# Altium footprint library 信标封装.PcbLib: 1 footprints
Each footprint in its own frame and in the unit in brackets; x right, y up, seen from the top. Pads: shape width x height; smd on the part's side, far side on the other; paste and mask are expansions set on the pad; w line width, h text height; cw(c..) or ccw(c..) is an arc to the next point about the centre after c.
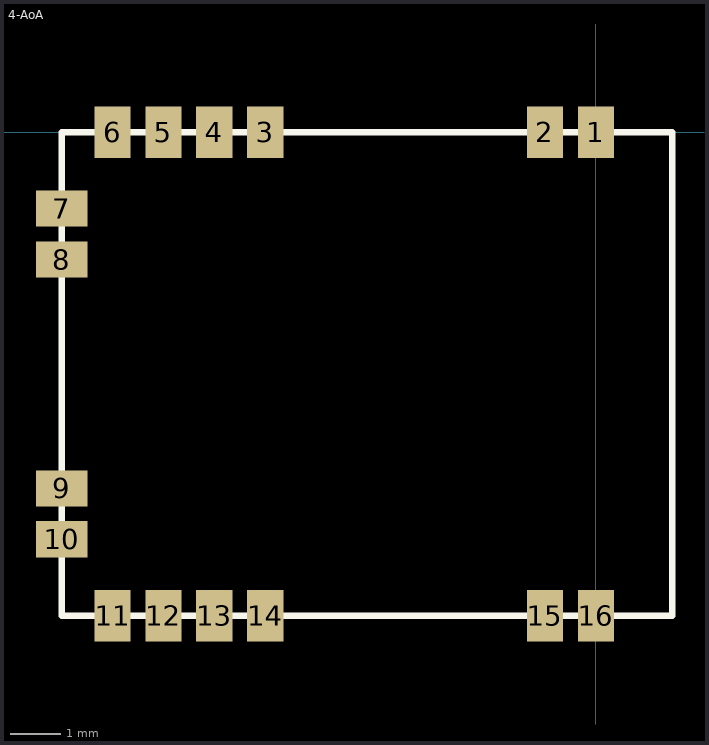
[diagram p0: the footprint, top view; thin cyan lines are the x and y axes]

## 4-AoA [mil]
height 62.99
pads (16):
  rect 28x40 smd: 1(0,0) 2(-39.37,0) 3(-255.91,0) 4(-295.28,0) 5(-334.65,-0.02) 6(-374.02,0) 11(-374.02,-374.02) 12(-334.65,-374.02) 13(-295.28,-374.02) 14(-255.91,-374.02) 15(-39.37,-374.02) 16(0,-374.03)
  rect 40x28 smd: 7(-413.39,-59.06) 8(-413.39,-98.43) 9(-413.39,-275.59) 10(-413.39,-314.96)
Top Layer:
  lines w5: -295.28,-16.91 -295.28,0
Top Overlay:
  lines w5: -413.39,-374.02 59.06,-374.02 59.06,0 -413.39,0 -413.39,-374.02